# EAGLE library part 155AG1 (library 155??1)
155??1 155AG1
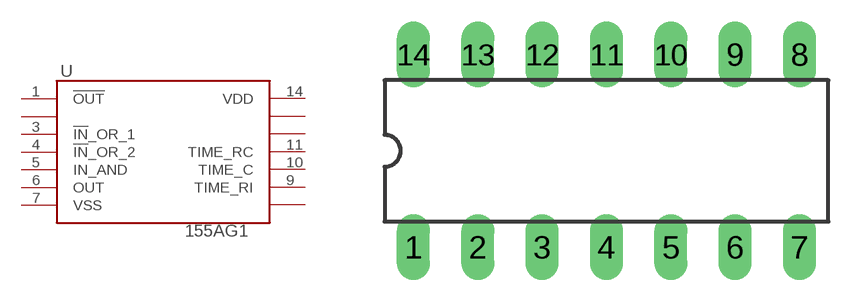
[diagram p0: symbol with the pads of DIP14; footprint DIP14]

Designator prefix -

## 155AG1  [DIP14]
1  !OUT!
2  NC  nc
3  !IN!_OR_1
4  !IN!_OR_2
5  IN_AND
6  OUT
7  VSS
8  NC  nc
9  TIME_RI
10  TIME_C
11  TIME_RC
12  NC  nc
13  NC  nc
14  VDD

## Footprint DIP14 (pad centres in mm)
drill 0.8 long: 1 -6.35,-3.81; 2 -3.81,-3.81; 3 -1.27,-3.81; 4 1.27,-3.81; 5 3.81,-3.81; 6 6.35,-3.81; 7 8.89,-3.81; 8 8.89,3.81; 9 6.35,3.81; 10 3.81,3.81; 11 1.27,3.81; 12 -1.27,3.81; 13 -3.81,3.81; 14 -6.35,3.81